# EAGLE library part FLAT-FLEX-CONNECTOR-RA-20POS (library FlashPCB_Connectors)
FLAT-FLEX-CONNECTOR-RA-20POS - Flat Flex Connector 20 position Right Angle Technical Specifications: Number of Positions: 20 Contact: Top or Bottom Mount: Right Angle
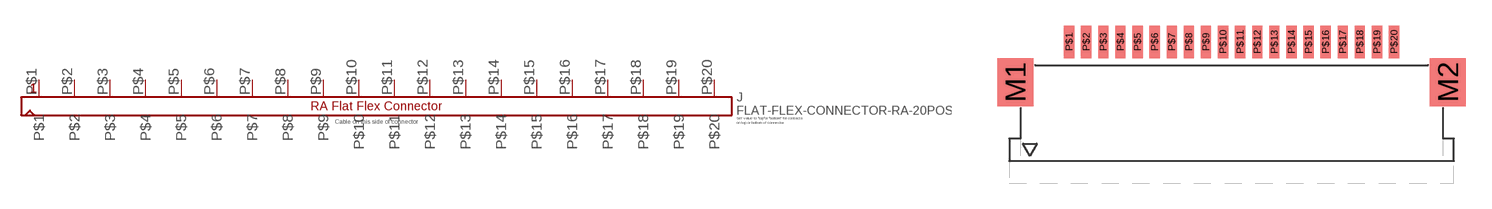
[diagram p114: symbol with the pads of FLAT-FLEX-CONNECTOR-MOLEX-522XX-RA-20POS; footprint FLAT-FLEX-CONNECTOR-MOLEX-522XX-RA-20POS]

Designator prefix J

## FLAT-FLEX-CONNECTOR-RA-20POS1MM-PITCH  [FLAT-FLEX-CONNECTOR-MOLEX-522XX-RA-20POS]
P$1  P$1
P$2  P$2
P$3  P$3
P$4  P$4
P$5  P$5
P$6  P$6
P$7  P$7
P$8  P$8
P$9  P$9
P$10  P$10
P$11  P$11
P$12  P$12
P$13  P$13
P$14  P$14
P$15  P$15
P$16  P$16
P$17  P$17
P$18  P$18
P$19  P$19
P$20  P$20

## Footprint FLAT-FLEX-CONNECTOR-MOLEX-522XX-RA-20POS (pad centres in mm)
smd 2.1 x 2.8: M1 -12.65,-1.4; M2 12.65,-1.4
smd 0.6 x 1.9: P$1 -9.5,0.95; P$2 -8.5,0.95; P$3 -7.5,0.95; P$4 -6.5,0.95; P$5 -5.5,0.95; P$6 -4.5,0.95; P$7 -3.5,0.95; P$8 -2.5,0.95; P$9 -1.5,0.95; P$10 -0.5,0.95; P$11 0.5,0.95; P$12 1.5,0.95; P$13 2.5,0.95; P$14 3.5,0.95; P$15 4.5,0.95; P$16 5.5,0.95; P$17 6.5,0.95; P$18 7.5,0.95; P$19 8.5,0.95; P$20 9.5,0.95